# Altium footprint library Power_Mux.PcbLib: 6 footprints
Each footprint in its own frame and in the unit in brackets; x right, y up, seen from the top. Pads: shape width x height; smd on the part's side, far side on the other; paste and mask are expansions set on the pad; w line width, h text height; cw(c..) or ccw(c..) is an arc to the next point about the centre after c.
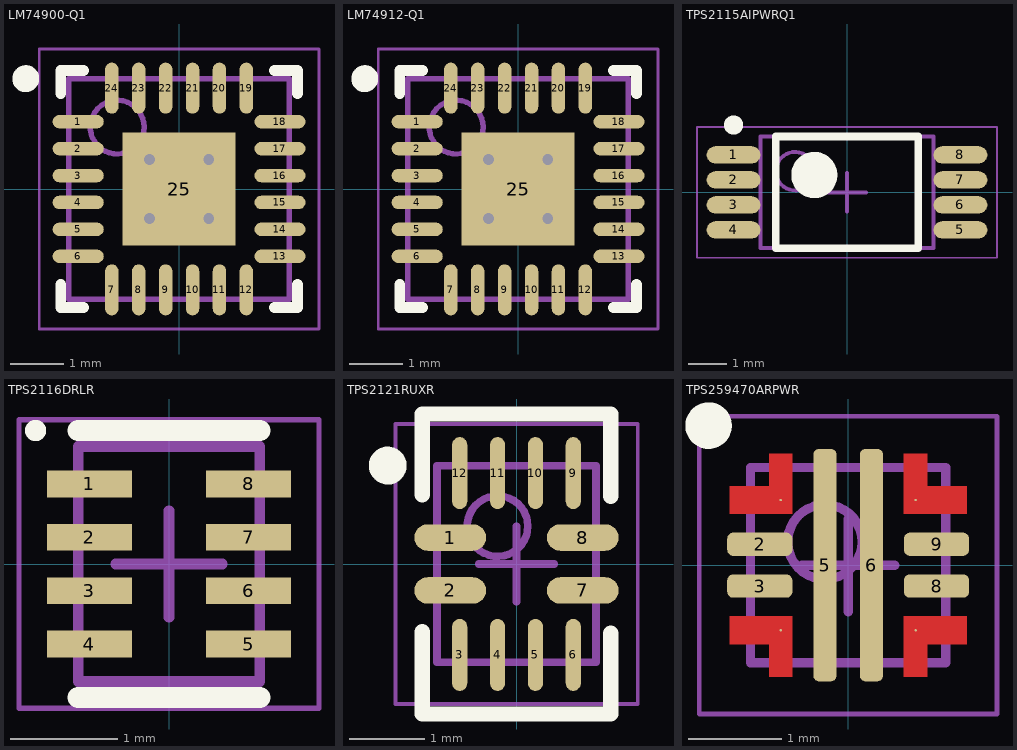
[diagram p0: the footprints below, top view; thin cyan lines are the x and y axes]

## LM74900-Q1 [mm] "QFN, 24-Leads, Body 4.00x4.00mm, Pitch 0.50mm, Thermal Pad 2.10x2.10mm, IPC Medium Density"
height 1
pads (25):
  oval 0.95x0.25 smd: 1(-1.875,1.25) 2(-1.875,0.75) 3(-1.875,0.25) 4(-1.875,-0.25) 5(-1.875,-0.75) 6(-1.875,-1.25) 13(1.875,-1.25) 14(1.875,-0.75) 15(1.875,-0.25) 16(1.875,0.25) 17(1.875,0.75) 18(1.875,1.25)
  oval 0.25x0.95 smd: 7(-1.25,-1.875) 8(-0.75,-1.875) 9(-0.25,-1.875) 10(0.25,-1.875) 11(0.75,-1.875) 12(1.25,-1.875) 19(1.25,1.875) 20(0.75,1.875) 21(0.25,1.875) 22(-0.25,1.875) 23(-0.75,1.875) 24(-1.25,1.875)
  rect 2.1x2.1 smd: 25(0,0)
via -0.55,0.55 diameter 0.5 hole 0.2
via 0.55,0.55 diameter 0.5 hole 0.2
via -0.55,-0.55 diameter 0.5 hole 0.2
via 0.55,-0.55 diameter 0.5 hole 0.2
Top Overlay:
  circle w0.25: c-2.85,2.05 r0.125
  lines w0.2: -2.2,-1.775 -2.2,-2.2 -1.775,-2.2 ; -2.2,1.775 -2.2,2.2 -1.775,2.2 ; 1.775,-2.2 2.2,-2.2 2.2,-1.775 ; 1.775,2.2 2.2,2.2 2.2,1.775
Top Designator:
  text ".Designator" at -5.998,-0.4 h1.2
Mechanical 13:
  circle w0.1: c-1.15,1.15 r0.5
  lines w0.1: -2.05,-2.05 -2.05,2.05 2.05,2.05 2.05,-2.05 -2.05,-2.05
Mechanical 15:
  lines w0.05: -2.6,-2.6 -2.6,2.6 2.6,2.6 2.6,-2.6 -2.6,-2.6
  lines w0.1: -0.5,0 0.5,0 ; 0,-0.5 0,0.5
3D body "QFN50P400X400X100_HS-25N.step": height 1, standoff 0, extent -2.051,-2.051 2.051,2.051

## LM74912-Q1 [mm] "QFN, 24-Leads, Body 4.00x4.00mm, Pitch 0.50mm, Thermal Pad 2.10x2.10mm, IPC Medium Density"
height 1
pads (25):
  oval 0.95x0.25 smd: 1(-1.875,1.25) 2(-1.875,0.75) 3(-1.875,0.25) 4(-1.875,-0.25) 5(-1.875,-0.75) 6(-1.875,-1.25) 13(1.875,-1.25) 14(1.875,-0.75) 15(1.875,-0.25) 16(1.875,0.25) 17(1.875,0.75) 18(1.875,1.25)
  oval 0.25x0.95 smd: 7(-1.25,-1.875) 8(-0.75,-1.875) 9(-0.25,-1.875) 10(0.25,-1.875) 11(0.75,-1.875) 12(1.25,-1.875) 19(1.25,1.875) 20(0.75,1.875) 21(0.25,1.875) 22(-0.25,1.875) 23(-0.75,1.875) 24(-1.25,1.875)
  rect 2.1x2.1 smd: 25(0,0)
via 0.55,-0.55 diameter 0.5 hole 0.2
via -0.55,-0.55 diameter 0.5 hole 0.2
via 0.55,0.55 diameter 0.5 hole 0.2
via -0.55,0.55 diameter 0.5 hole 0.2
Top Overlay:
  circle w0.25: c-2.85,2.05 r0.125
  lines w0.2: -2.2,-1.775 -2.2,-2.2 -1.775,-2.2 ; -2.2,1.775 -2.2,2.2 -1.775,2.2 ; 1.775,-2.2 2.2,-2.2 2.2,-1.775 ; 1.775,2.2 2.2,2.2 2.2,1.775
Top Designator:
  text ".Designator" at -5.998,-0.4 h1.2
Mechanical 13:
  circle w0.1: c-1.15,1.15 r0.5
  lines w0.1: -2.05,-2.05 2.05,-2.05 2.05,2.05 -2.05,2.05 -2.05,-2.05
Mechanical 15:
  lines w0.05: -2.6,-2.6 2.6,-2.6 2.6,2.6 -2.6,2.6 -2.6,-2.6
  lines w0.1: -0.5,0 0.5,0 ; 0,-0.5 0,0.5
3D body "QFN50P400X400X100_HS-25N.step": height 1, standoff 0, extent -2.051,-2.051 2.051,2.051

## TPS2115AIPWRQ1 [mm] "TSOP, 8-Leads, Body 3.00x4.40mm, Pitch 0.65mm, IPC Medium Density"
height 1.2
pads (8):
  oval 1.4x0.45 smd: 1(-2.95,0.975) 2(-2.95,0.325) 3(-2.95,-0.325) 4(-2.95,-0.975) 5(2.95,-0.975) 6(2.95,-0.325) 7(2.95,0.325) 8(2.95,0.975)
Top Overlay:
  circle w0.25: c-2.95,1.75 r0.125
  circle w0.6: c-0.85,0.45 r0.3
  lines w0.2: -1.85,-1.45 -1.85,1.45 1.85,1.45 1.85,-1.45 -1.85,-1.45
Top Designator:
  text ".Designator" at -5.998,-0.4 h1.2
Mechanical 13:
  circle w0.1: c-1.35,0.55 r0.5
  lines w0.1: -2.25,-1.45 -2.25,1.45 2.25,1.45 2.25,-1.45 -2.25,-1.45
Mechanical 15:
  lines w0.05: -3.9,-1.7 -3.9,1.7 3.9,1.7 3.9,-1.7 -3.9,-1.7
  lines w0.1: -0.5,0 0.5,0 ; 0,-0.5 0,0.5
3D body "TSOP65P640X120-8N.step": height 1.2, standoff 0, extent -3.2,-1.45 3.2,1.45

## TPS2116DRLR [mm] "SON, 8-Leads, Body 2.10x1.60mm, Pitch 0.50mm, IPC Medium Density"
height 0.6
pads (8):
  rect 0.8x0.25 smd: 1(-0.745,0.75) 2(-0.745,0.25) 3(-0.745,-0.25) 4(-0.745,-0.75) 5(0.745,-0.75) 6(0.745,-0.25) 7(0.745,0.25) 8(0.745,0.75)
Top Overlay:
  circle w0.1: c-1.25,1.25 r0.05
  lines w0.2: -0.85,-1.25 0.85,-1.25 ; -0.85,1.25 0.85,1.25
Top Designator:
  text ".Designator" at -5.998,-0.4 h1.2
Mechanical 13:
  lines w0.1: -0.85,-1.1 0.85,-1.1 0.85,1.1 -0.85,1.1 -0.85,-1.1
Mechanical 15:
  lines w0.05: -1.405,-1.35 1.405,-1.35 1.405,1.35 -1.405,1.35 -1.405,-1.35
  lines w0.1: -0.5,0 0.5,0 ; 0,-0.5 0,0.5
3D body "SON50P160X60-8N.step": height 0.6, standoff 0, extent -0.95,-1.1 0.95,1.1

## TPS2121RUXR [mm] "QFN, 12-Leads, Body 2.00x2.50mm, Pitch 0.50mm/0.70mm, IPC Medium Density"
height 1
pads (12):
  oval 0.95x0.35 smd: 1(-0.875,0.35) 2(-0.875,-0.35) 7(0.875,-0.35) 8(0.875,0.35)
  oval 0.2x0.95 smd: 3(-0.75,-1.201) 4(-0.25,-1.201) 5(0.25,-1.201) 6(0.75,-1.2) 9(0.75,1.2) 10(0.25,1.2) 11(-0.25,1.2) 12(-0.75,1.2)
Top Overlay:
  circle w0.25: c-1.7,1.3 r0.125
  lines w0.2: -1.245,-0.895 -1.245,-1.981 1.245,-1.981 1.245,-0.914 ; -1.245,0.914 -1.245,1.981 1.245,1.981 1.245,0.895
Top Designator:
  text ".Designator" at -5.998,-0.4 h1.2
Mechanical 13:
  circle w0.1: c-0.25,0.5 r0.4
  lines w0.1: -1.05,-1.3 -1.05,1.3 1.05,1.3 1.05,-1.3 -1.05,-1.3
Mechanical 15:
  lines w0.05: -1.6,-1.85 -1.6,1.85 1.6,1.85 1.6,-1.85 -1.6,-1.85
  lines w0.1: -0.5,0 0.5,0 ; 0,-0.5 0,0.5
3D body "QFN50P200X250X100-12N.step": height 1, standoff 0, extent -1.051,-1.301 1.051,1.301

## TPS259470ARPWR [mm] "QFN, 16-Leads, Body 2.00x2.00mm, Pitch 0.50mm, IPC Medium Density"
height 1
pads (10):
  round 0.025 smd mask+0.05: 1(-0.725,0.7) 4(-0.725,-0.7) 7(0.725,-0.7) 10(0.725,0.7)
  rrect50% 0.7x0.25 smd mask+0.05: 2(-0.95,0.225) 3(-0.95,-0.225) 8(0.95,-0.225) 9(0.95,0.225)
  rrect50% 0.25x2.5 smd mask+0.05: 5(-0.25,0) 6(0.25,0)
Top Layer:
  region: -1.275,0.55 -1.275,0.85 -0.85,0.85 -0.85,1.2 -0.6,1.2 -0.6,0.55
  region: -1.275,-0.55 -1.275,-0.85 -0.85,-0.85 -0.85,-1.2 -0.6,-1.2 -0.6,-0.55
  region: 1.275,-0.55 1.275,-0.85 0.85,-0.85 0.85,-1.2 0.6,-1.2 0.6,-0.55
  region: 1.275,0.55 1.275,0.85 0.85,0.85 0.85,1.2 0.6,1.2 0.6,0.55
Top Overlay:
  circle w0.25: c-1.5,1.5 r0.125
Top Designator:
  text ".Designator" at -5.998,-0.4 h1.2
Mechanical 13:
  circle w0.1: c-0.25,0.25 r0.4
  lines w0.1: -1.05,-1.05 1.05,-1.05 1.05,1.05 -1.05,1.05 -1.05,-1.05
Mechanical 15:
  lines w0.05: -1.6,-1.6 1.6,-1.6 1.6,1.6 -1.6,1.6 -1.6,-1.6
  lines w0.1: -0.5,0 0.5,0 ; 0,-0.5 0,0.5
3D body "QFN50P200X200X100-16N.step": height 1, standoff 0, extent -1.051,-1.051 1.051,1.051